# Altium schematic symbol library Schlib1.SchLib: 2 symbols
Pins are listed as number, name and electrical type; pins without a type are passive.

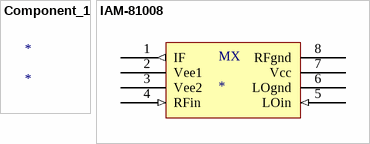
[diagram p0: symbols Component_1 to IAM-81008]

## Component_1
designator *

## IAM-81008
designator MX
mixer
footprint IAM-81008 (SOP, 8-Leads, Body 4,86x3,90mm, Pitch 1,27mm, IPC Medium Density)
pins: 1 IF (out), 2 Vee1 (power), 3 Vee2 (power), 4 RFin (in), 5 LOin (in), 6 LOgnd (power), 7 Vcc (power), 8 RFgnd (power)